# EAGLE library part TQ2SSS-L2 (library Panasonic Relay)
TQ SMD - 2 Form C - 2 coil latching Data sheet <https://www.panasonic-electric-works.com/eu/download.htm?id=55832> Parameters Max. switching voltage: 110V DC, 125V AC Max. switching current: 1A Operational function: single side stable, 1 coil latching, 2 coil latching Contact arrangement: 2 CO Applications Communications Measurement equipment OA equipment Industrial machines Options Also available as single side stable and 1 coil latching version.
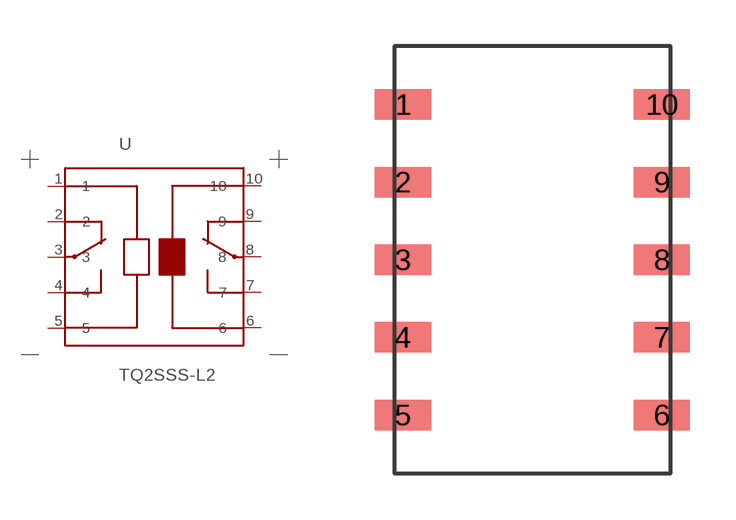
[diagram p79: symbol with the pads of TQ_SSS/1CLT/2CLT_SMD_SS; footprint TQ_SSS/1CLT/2CLT_SMD_SS]

Designator prefix -

## TQ2SSS-L2-1.5V (U_COIL: 1.5V DC), TQ2SSS-L2-12V (U_COIL: 12V DC), TQ2SSS-L2-24V (U_COIL: 24V DC), TQ2SSS-L2-3V (U_COIL: 3V DC), TQ2SSS-L2-4.5V (U_COIL: 4.5V DC), TQ2SSS-L2-5V (U_COIL: 5V DC), TQ2SSS-L2-6V (U_COIL: 6V DC), TQ2SSS-L2-9V (U_COIL: 9V DC)  [TQ_SSS/1CLT/2CLT_SMD_SS]
1  1
2  2
3  3
4  4
5  5
6  6
7  7
8  8
9  9
10  10

## Footprint TQ_SSS/1CLT/2CLT_SMD_SS (pad centres in mm)
smd 1.84 x 1: 1 -4.23,5.08; 2 -4.23,2.54; 3 -4.23,0; 4 -4.23,-2.54; 5 -4.23,-5.08; 6 4.23,-5.08; 7 4.23,-2.54; 8 4.23,0; 9 4.23,2.54; 10 4.23,5.08